# EAGLE library part GENERIC_SPI (library WavefrontLBR)
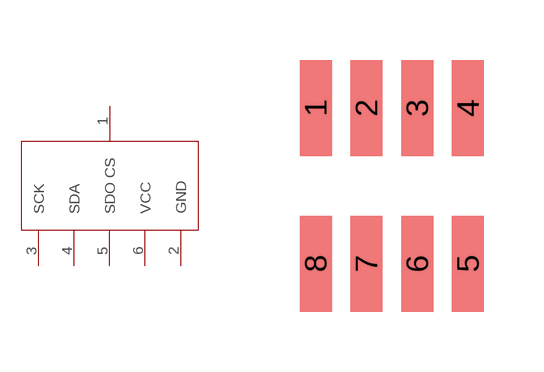
[diagram p2: symbol with the pads of 8PINSMD; footprint 8PINSMD]

Designator prefix -

## GENERIC_SPI  [8PINSMD]
1  CS
2  GND
3  SCK
4  SDA
5  SDO
6  VCC

## Footprint 8PINSMD (pad centres in mm)
smd 0.8 x 2.4: 1 -1.905,1.95; 2 -0.635,1.95; 3 0.635,1.95; 4 1.905,1.95; 5 1.905,-1.95; 6 0.635,-1.95; 7 -0.635,-1.95; 8 -1.905,-1.95